# EAGLE library part MCP1643 (library dword1511-pmic-dcdc)
1 MHz Low Start-up Voltage Synchronous Boost LED Constant Current Regulator
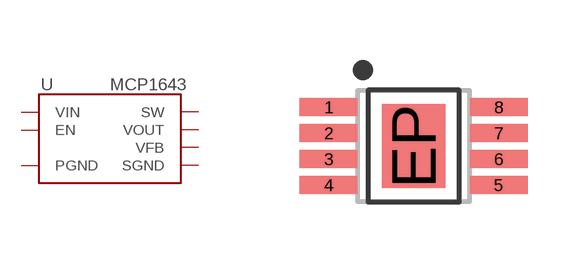
[diagram p30: symbol with the pads of MSOP-8-3X3-EP; footprint MSOP-8-3X3-EP]

Designator prefix U

## MCP1643-I/MS, MCP1643T-I/MS  [MSOP-8-3X3-EP]
1  EN  in
2  VFB  in
4  VOUT  pwr
5  SW  out
6  PGND  pwr
7  SGND  pwr
8  VIN  pwr
EP  PGND  pwr

## Footprint MSOP-8-3X3-EP (pad centres in mm)
smd 1.45 x 0.45: 1 -2.125,0.975; 2 -2.125,0.325; 3 -2.125,-0.325; 4 -2.125,-0.975; 5 2.125,-0.975; 6 2.125,-0.325; 7 2.125,0.325; 8 2.125,0.975
smd 1.6 x 2.1: EP 0,0